# Altium footprint library uSDD card.PcbLib: 4 footprints
Each footprint in its own frame and in the unit in brackets; x right, y up, seen from the top. Pads: shape width x height; smd on the part's side, far side on the other; paste and mask are expansions set on the pad; w line width, h text height; cw(c..) or ccw(c..) is an arc to the next point about the centre after c.
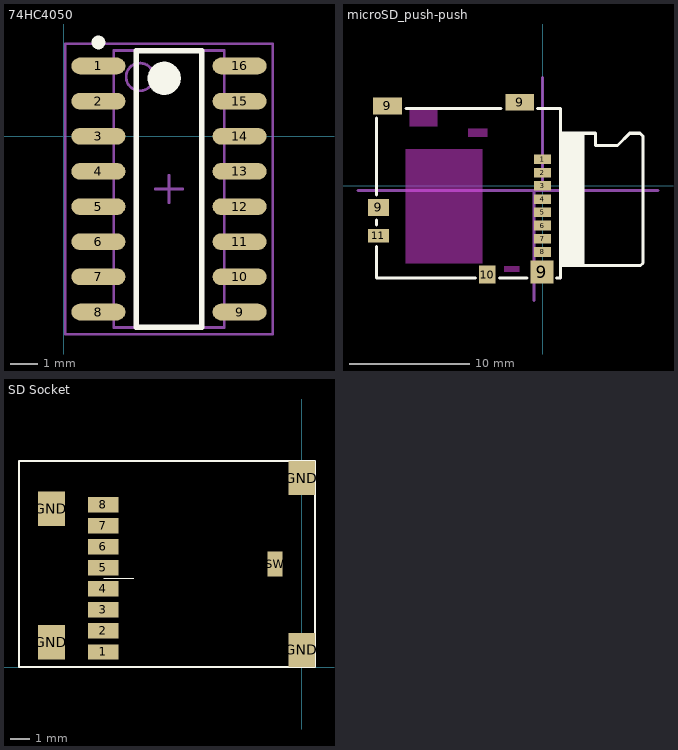
[diagram p0: the footprints below, top view; thin cyan lines are the x and y axes]

## 74HC4050 [mm]
pads (16):
  oval 1.95x0.6 smd: 1(1.25,2.545) 2(1.25,1.275) 3(1.25,0.005) 4(1.25,-1.265) 5(1.25,-2.535) 6(1.25,-3.805) 7(1.25,-5.075) 8(1.25,-6.345) 9(6.35,-6.345) 10(6.35,-5.075) 11(6.35,-3.805) 12(6.35,-2.535) 13(6.35,-1.265) 14(6.35,0.005) 15(6.35,1.275) 16(6.35,2.545)
Top Overlay:
  circle w0.25: c1.25,3.395 r0.125
  circle w0.6: c3.625,2.1 r0.3
  lines w0.2: 2.625,-6.9 2.625,3.1 4.975,3.1 4.975,-6.9 2.625,-6.9
Mechanical 13:
  circle w0.1: c2.75,2.15 r0.5
  lines w0.1: 1.8,-6.9 1.8,3.1 5.8,3.1 5.8,-6.9 1.8,-6.9
Mechanical 15:
  lines w0.1: 3.3,-1.9 4.3,-1.9 ; 3.8,-2.4 3.8,-1.4 ; 0.05,-7.15 0.05,3.35 7.55,3.35 7.55,-7.15 0.05,-7.15
3D body: height 1.45, standoff 0.1, extent 1.8,-6.9 5.8,3.1

## microSD_push-push [mm]
pads (14):
  rect 1.4x0.8 smd: 1(0,2.2) 2(0,1.1) 3(0,0) 4(0,-1.1) 5(0,-2.2) 6(0,-3.3) 7(0,-4.4) 8(0,-5.5)
  rect 1.72x1.4 smd: 9(-13.651,-1.8)
  rect 2.4x1.4 smd: 9(-12.901,6.65) 9(-1.9,6.95)
  rect 1.9x1.9 smd: 9(-0.05,-7.175)
  rect 1.4x1.5 smd: 10(-4.6,-7.375)
  rect 1.72x1.1 smd: 11(-13.651,-4.15)
Top Overlay:
  rectangle: 1.525,-6.65 3.475,4.4
  lines w0.254: -13.825,-5.05 -13.825,-7.675 -5.6,-7.675 ; -13.825,-3.25 -13.825,-2.85 ; -13.825,-0.775 -13.825,5.625 ; -11.375,6.425 -3.45,6.425 ; -3.6,-7.675 -1.3,-7.675 ; -0.4,6.425 1.5,6.425 1.5,-4.75 1.5,-6.675 ; 1.175,-7.675 1.5,-7.675 1.5,-6.625 8.15,-6.625 8.35,-6.425 8.35,4.125 8.1,4.375 7.25,4.375 6.225,3.35 4.4,3.35 4.4,4.375 1.525,4.375
Keep-Out Layer:
  rectangle: -11.4,-6.45 -5,3.05
  rectangle: -11.05,4.95 -8.75,6.45
  rectangle: -6.2,4.05 -4.6,4.75
  rectangle: -3.2,-7.15 -1.9,-6.65
Mechanical 1:
  lines w0.254: 1.475,-7.675 1.475,6.4
Mechanical 15:
  lines w0.254: -15.35,-0.4 -0.7,-0.4 ; -0.7,-9.55 -0.7,-0.4 ; 0,0 0,9.025 ; 9.6,-0.4 -0.7,-0.4
3D body: height 1.5, standoff 0.5, extent -6.7,-6.6 8.3,4.35
3D body: height 1.55, standoff 0, extent -13.85,-7.675 1.625,6.4

## SD Socket [mm]
pads (13):
  rect 1.6x0.8 smd: 1(-10.4,0.8) 2(-10.4,1.9) 3(-10.4,3) 4(-10.4,4.1) 5(-10.4,5.2) 6(-10.4,6.3) 7(-10.4,7.4) 8(-10.4,8.5)
  rect 1.4x1.8 smd: GND(-13.1,1.3) GND(-13.1,8.3) GND(0,0.9) GND(0,9.9)
  rect 0.8x1.3 smd: SW(-1.4,5.4)
Top Overlay:
  lines w0.01: -10.375,4.65 -8.8,4.65
  lines w0.1: -14.8,0 -14.8,10.8 0.7,10.8 0.7,0 -14.8,0

## TSOP127P600X145-16N [mm] "TSOP, 16-Leads, Body 10.0x4.0mm (max), Pitch 1.27mm, IPC Medium Density"
height 1.45